# Altium schematic symbol library Power.SchLib: 14 symbols
Pins are listed as number, name and electrical type; pins without a type are passive.

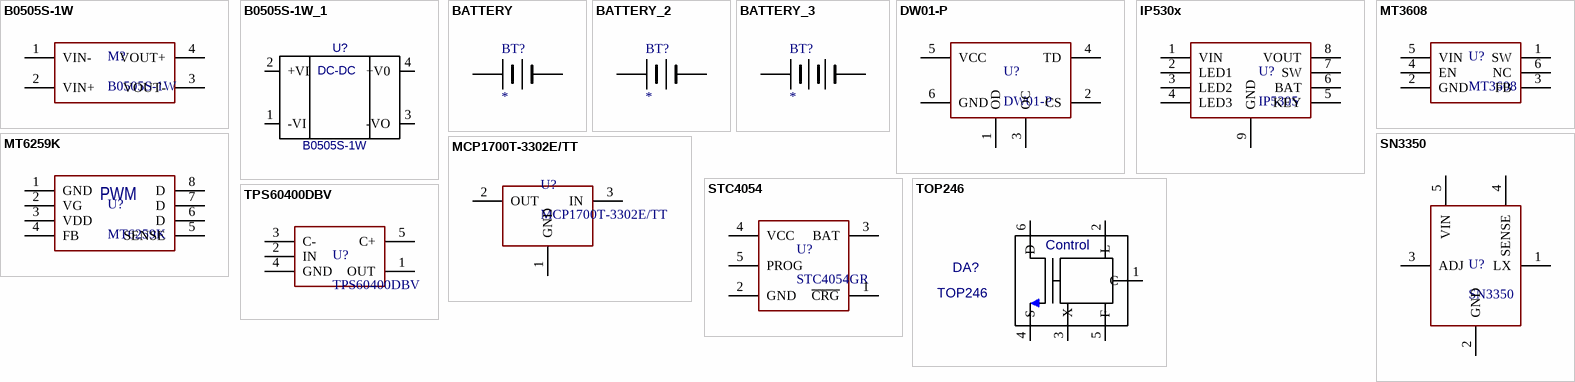
[diagram p0: symbols B0505S-1W to TPS60400DBV]

## B0505S-1W
designator M?
footprint SIP-4
pins: 1 VIN-, 2 VIN+, 3 VOUT-, 4 VOUT+

## B0505S-1W_1
designator U?, comment B0505S-1W
Value: *
footprint SIP-4
pins: 1 -VI, 2 +VI, 3 -VO, 4 +V0
text: DC-DC

## BATTERY
designator BT?
Battery
footprint BAT-LI
footprint BAT-BL-3
pins: 1 +, 2 -

## BATTERY_2
designator BT?
Battery; Производитель: *; Допустимая замена: *; Цена: *; PDF файл: *; Температурный диапазон: *; Описание пользователя: *; Конфигурация контактов RxNN: *; *: *
pins: 1 +, 2 -

## BATTERY_3
designator BT?
Battery; Производитель: *; Допустимая замена: *; Цена: *; PDF файл: *; Температурный диапазон: *; Описание пользователя: *; Конфигурация контактов RxNN: *; *: *
pins: 1 +, 2 -

## DW01-P
designator U?
footprint SOT-23-6 (SOT23, 6-Leads, Body 2,90x2,45mm, Pitch 0,95mm, IPC Medium Density)
pins: 1 OD, 2 CS, 3 OC, 4 TD, 5 VCC, 6 GND

## IP530x
designator U?, comment IP5305
footprint SO-8EP9 (SOIC, 8-Leads, Body 4,90x3,90mm, Pitch 1,27mm, IPC Medium Density)
pins: 1 VIN, 2 LED1, 3 LED2, 4 LED3, 5 KEY, 6 BAT, 7 SW, 8 VOUT, 9 GND

## MCP1700T-3302E/TT
designator U?
footprint SOT-23
pins: 1 GND, 2 OUT, 3 IN

## MT3608
designator U?
footprint SOT-23-6 (SOT23, 6-Leads, Body 2,90x2,45mm, Pitch 0,95mm, IPC Medium Density)
pins: 1 SW, 2 GND, 3 FB, 4 EN, 5 VIN, 6 NC

## MT6259K
designator U?
HV PWM controller
footprint SO-8 (SOIC, 8-Leads, Body 4,90x3,90mm, Pitch 1,27mm, IPC Medium Density)
pins: 1 GND, 2 VG, 3 VDD, 4 FB, 5 SENSE, 6 D, 7 D, 8 D
text: PWM

## SN3350
designator U?
footprint SOT89-5
pins: 1 LX, 2 GND, 3 ADJ, 4 SENSE, 5 VIN

## STC4054
designator U?, comment STC4054GR
footprint SOT-23-5 (SOT23, 5-Leads, Body 2,90x2,45mm, Pitch 0,95mm, IPC Medium Density)
pins: 1 ~{CRG}, 2 GND, 3 BAT, 4 VCC, 5 PROG

## TOP246
designator DA?
Value: *
footprint TO-220_7C
pins: 1 C, 2 L, 3 X, 4 S, 5 F, 6 D
text: Control

## TPS60400DBV
designator U?
footprint SOT-23-5 (SOT23, 5-Leads, Body 2,90x2,45mm, Pitch 0,95mm, IPC Medium Density)
pins: 1 OUT, 2 IN, 3 C-, 4 GND, 5 C+